# Altium footprint library SOT323-3L.PcbLib: 1 footprints
Each footprint in its own frame and in the unit in brackets; x right, y up, seen from the top. Pads: shape width x height; smd on the part's side, far side on the other; paste and mask are expansions set on the pad; w line width, h text height; cw(c..) or ccw(c..) is an arc to the next point about the centre after c.
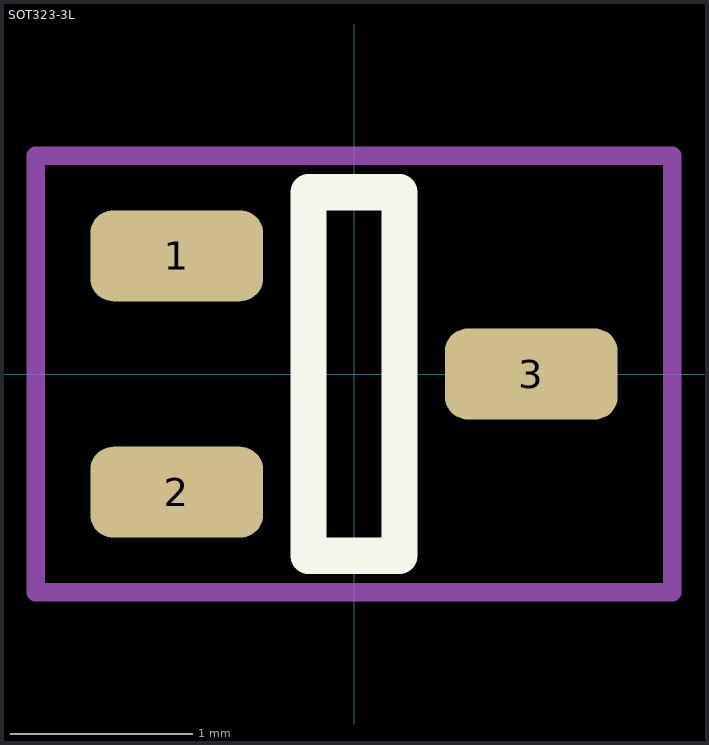
[diagram p0: the footprint, top view; thin cyan lines are the x and y axes]

## SOT323-3L [mm]
pads (3):
  rrect50% 0.95x0.5 smd: 1(-0.975,0.65) 2(-0.975,-0.65) 3(0.975,0)
Top Overlay:
  lines w0.2: -0.25,-1 -0.25,1 0.25,1 0.25,-1 -0.25,-1
Top Courtyard:
  lines w0.1: -1.75,-1.2 -1.75,1.2 1.75,1.2 1.75,-1.2 -1.75,-1.2
3D body "ESDA37WY.stp": height 1.1, standoff 0, extent -1.05,-1 1.05,1